# Altium schematic symbol library MCP2551 CAN Transceiver.SchLib: 1 symbol
Pins are listed as number, name and electrical type; pins without a type are passive.

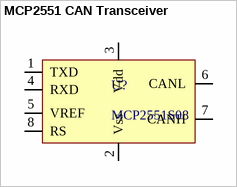
[diagram p0: symbol MCP2551 CAN Transceiver]

## MCP2551 CAN Transceiver
designator U?, comment MCP2551S08
pins: 1 TXD, 2 Vss, 3 Vdd, 4 RXD, 5 VREF, 6 CANL, 7 CANH, 8 RS